# Altium schematic symbol library Antena.SchLib: 9 symbols
Pins are listed as number, name and electrical type; pins without a type are passive.

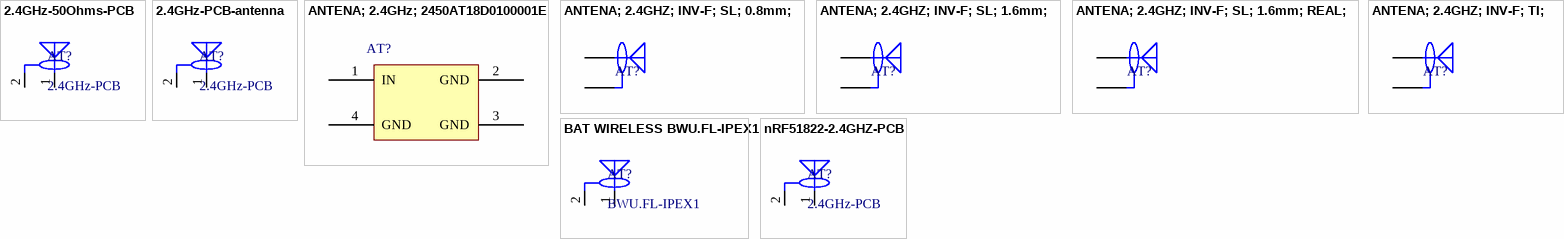
[diagram p0: symbols 2.4GHz-50Ohms-PCB to nRF51822-2.4GHZ-PCB]

## 2.4GHz-50Ohms-PCB
designator AT?, comment 2.4GHz-PCB
2.4GHz 50Ohms
footprint 2.4GHz-50Ohms-PCB
pins: 1, 2

## 2.4GHz-PCB-antenna
designator AT?, comment 2.4GHz-PCB
When coupled to a 50-ohm source, the suggested antenna design uses no more than 15.2 x 5.7 mm of the area and ensures a VSWR ratio of less than two across the 2.4 GHz ISM band. ##2.4GHz-PCB-antenna
footprint 2.4GHz-PCB-antenna
pins: 1, 2

## ANTENA; 2.4GHz; 2450AT18D0100001E
designator AT?, comment RF ANTENNA Chip Solder Surface Mount  (value not drawn)
Rf Ant 2.4GHZ Chip Solder SMD; Manufacturer: Johanson; Manufacturer Part Number: 2450AT18D0100001E; Designer: TVBac; Supplier: Digikey; Supplier Part Number: 712-2450AT18D0100001ECT-ND; RoHS: No; Stock: 325206; Pricing: 1=1.16, 10=0.707, 25=0.5876, 100=0.4528, 250=0.38656, 500=0.3458, 1000=0.31167, 3000=0.26855, 6000=0.24696, 9000=0.23599, 15000=0.2237, 21000=0.22325 (USD); ComponentLink1Description: Link Digikey; ComponentLink1URL: https://www.digikey.com/en/products/detail/johanson-technology-inc/2450AT18D0100001E/4770685
footprint ANTENA-SMD-2.4GHZ-H-1.42 (Antenna, Johanson 2450AT18D0100)
pins: 1 IN, 2 GND, 3 GND, 4 GND

## ANTENA; 2.4GHZ; INV-F; SL; 0.8mm;
designator AT?, comment ANTENA; 2.4GHZ; INV-F  (value not drawn)
Small Size 2.4 GHz PCB antenna
footprint ANTENA-0.8mm-SL
footprint ANTENA-0.8mm-MIRR-SL
pins: 1, 2 GND

## ANTENA; 2.4GHZ; INV-F; SL; 1.6mm;
designator AT?, comment ANTENA; 2.4GHZ; INV-F  (value not drawn)
Small Size 2.4 GHz PCB antenna
footprint ANTENA-1.6mm-SL
pins: 1, 2 GND

## ANTENA; 2.4GHZ; INV-F; SL; 1.6mm; REAL;
designator AT?, comment ANTENA; 2.4GHZ; INV-F  (value not drawn)
Small Size 2.4 GHz PCB antenna
footprint INVERTED-1.6mm-SL
pins: 1, 2 GND

## ANTENA; 2.4GHZ; INV-F; TI;
designator AT?, comment ANTENA; 2.4GHZ; INV-F  (value not drawn)
Small Size 2.4 GHz PCB antenna
footprint ANTENA-TI
pins: 1, 2 GND

## BAT WIRELESS BWU.FL-IPEX1
designator AT?, comment BWU.FL-IPEX1
1 Inner pin IPEX Board-End 1.25mm 6GHz 50Ω 2mm SMD Coaxial Connectors (RF) ROHS; Manufacturer: BAT WIRELESS; Manufacture Part Number: BWU.FL-IPEX1; Packaging: Cut Tape; Link: https://www.lcsc.com/product-detail/Coaxial-Connectors-RF_BAT-WIRELESS-BWU-FL-IPEX1_C5137195.html?s_z=n_IPEX; Package: SMD
footprint IPEX-SMD_BWIPX-1-001E
pins: 1, 2

## nRF51822-2.4GHZ-PCB
designator AT?, comment 2.4GHz-PCB
When coupled to a 50-ohm source, the suggested antenna design uses no more than 15.2 x 5.7 mm of the area and ensures a VSWR ratio of less than two across the 2.4 GHz ISM band. ##2.4GHz-PCB-antenna
footprint nRF51822-PCB-ANTENNA - duplicate
pins: 1, 2